# Altium schematic symbol library MMBT3904-TP.SchLib: 1 symbol
Pins are listed as number, name and electrical type; pins without a type are passive.

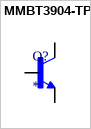
[diagram p0: symbol MMBT3904-TP]

## MMBT3904-TP
designator Q?
Bipolar (BJT) Transistor NPN 40 V 200 mA 300MHz 350 mW Surface Mount SOT-23; MF: Micro Commercial; MP: MMBT3904-TP; SnapEDA_Link: https://www.snapeda.com/parts/MMBT3904-TP/Micro+Commercial+Components/view-part/?ref=snap; Package: SOT-23 MCC; Value: *; Check_prices: https://www.snapeda.com/parts/MMBT3904-TP/Micro+Commercial+Components/view-part/?ref=eda
footprint SOT95P237X125-3N
pins: 1 B, 2 E, 3 C